# Altium footprint library MA732GQ-Z.PcbLib: 3 footprints
Each footprint in its own frame and in the unit in brackets; x right, y up, seen from the top. Pads: shape width x height; smd on the part's side, far side on the other; paste and mask are expansions set on the pad; w line width, h text height; cw(c..) or ccw(c..) is an arc to the next point about the centre after c.
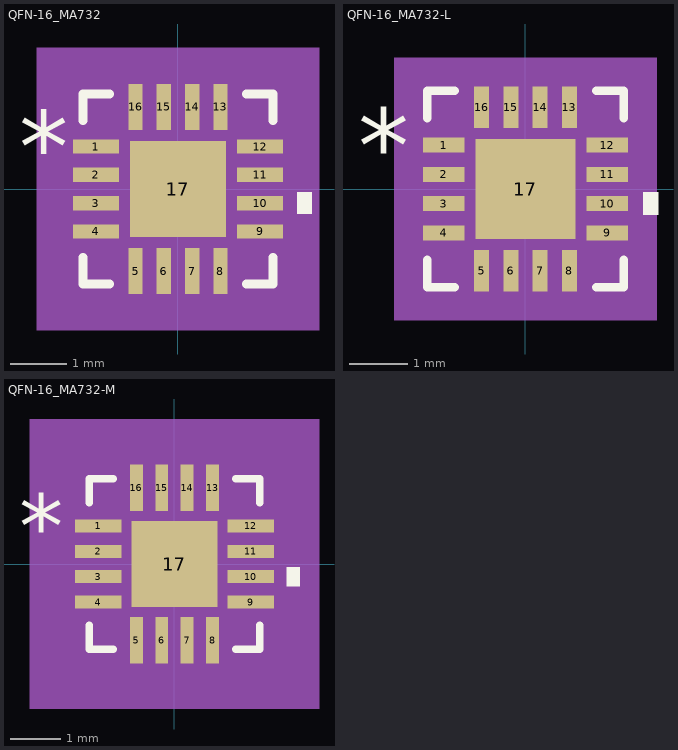
[diagram p0: the footprints below, top view; thin cyan lines are the x and y axes]

## QFN-16_MA732 [mil]
pads (17):
  rect 32x10 smd paste+0 mask+0: 1(-57,29.53) 2(-57,9.84) 3(-57,-9.84) 4(-57,-29.53) 9(57,-29.53) 10(57,-9.84) 11(57,9.84) 12(57,29.53)
  rect 10x32 smd paste+0 mask+0: 5(-29.53,-57) 6(-9.84,-57) 7(9.84,-57) 8(29.53,-57) 13(29.53,57) 14(9.84,57) 15(-9.84,57) 16(-29.53,57)
  rect 67x67 smd paste+0 mask+0: 17(0,0)
Top Overlay:
  region: 83,-2.34 93,-2.34 93,-17.34 83,-17.34
  lines w6: -66,-47.63 -66,-66 -47.63,-66 ; -66,47.63 -66,66 -47.63,66 ; 47.63,-66 66,-66 66,-47.63 ; 47.63,66 66,66 66,47.63
  text "*" at -110.5,4.53 h50
Mechanical 5:
  region: 98,-98 -98,-98 -98,98 98,98
Mechanical 13:
  lines w1: -61,11 -11,61 ; -61,-61 -61,61 61,61 61,-61 -61,-61 ; -61,-35.53 -61,-23.53 -61,-35.53 ; -61,-15.84 -61,-3.84 -61,-15.84 ; -61,3.84 -61,15.84 -61,3.84 ; -61,23.53 -61,35.53 -61,23.53 ; -35.53,-61 -23.53,-61 -35.53,-61 ; -35.53,61 -23.53,61 -35.53,61 ; -15.84,-61 -3.84,-61 -15.84,-61 ; -15.84,61 -3.84,61 -15.84,61 ; 3.84,-61 15.84,-61 3.84,-61 ; 3.84,61 15.84,61 3.84,61 ; 23.53,-61 35.53,-61 23.53,-61 ; 23.53,61 35.53,61 23.53,61 ; 61,-35.53 61,-23.53 61,-35.53 ; 61,-15.84 61,-3.84 61,-15.84 ; 61,3.84 61,15.84 61,3.84 ; 61,23.53 61,35.53 61,23.53
  text "*" at -28.5,4.53 h50
Mechanical 15:
  region: -44.53,-71 -71,-71 -71,-44.53 -83,-44.53 -83,44.53 -71,44.53 -71,71 -44.53,71 -44.53,83 44.53,83 44.53,71 71,71 71,44.53 83,44.53 83,-44.53 71,-44.53 71,-71 44.53,-71 44.53,-83 -44.53,-83
  lines w6: -83,-44.53 -83,44.53 -71,44.53 -71,71 -44.53,71 -44.53,83 44.53,83 44.53,71 71,71 71,44.53 83,44.53 83,-44.53 71,-44.53 71,-71 44.53,-71 44.53,-83 -44.53,-83 -44.53,-71 -71,-71 -71,-44.53 -83,-44.53
3D body "QFN-16_MA732.step": height 37.09, standoff 0, extent -60.98,-60.98 60.98,60.98

## QFN-16_MA732-L [mil]
pads (17):
  rect 28x10 smd paste+0 mask+0: 1(-55,29.53) 2(-55,9.84) 3(-55,-9.84) 4(-55,-29.53) 9(55,-29.53) 10(55,-9.84) 11(55,9.84) 12(55,29.53)
  rect 10x28 smd paste+0 mask+0: 5(-29.53,-55) 6(-9.84,-55) 7(9.84,-55) 8(29.53,-55) 13(29.53,55) 14(9.84,55) 15(-9.84,55) 16(-29.53,55)
  rect 67x67 smd paste+0 mask+0: 17(0,0)
Top Overlay:
  region: 79,-2.34 89,-2.34 89,-17.34 79,-17.34
  lines w6: -66,-47.63 -66,-66 -47.63,-66 ; -66,47.63 -66,66 -47.63,66 ; 47.63,-66 66,-66 66,-47.63 ; 47.63,66 66,66 66,47.63
  text "*" at -112.5,4.53 h50
Mechanical 5:
  region: 88,-88 -88,-88 -88,88 88,88
Mechanical 13:
  lines w1: -61,11 -11,61 ; -61,-61 -61,61 61,61 61,-61 -61,-61 ; -61,-35.53 -61,-23.53 -61,-35.53 ; -61,-15.84 -61,-3.84 -61,-15.84 ; -61,3.84 -61,15.84 -61,3.84 ; -61,23.53 -61,35.53 -61,23.53 ; -35.53,-61 -23.53,-61 -35.53,-61 ; -35.53,61 -23.53,61 -35.53,61 ; -15.84,-61 -3.84,-61 -15.84,-61 ; -15.84,61 -3.84,61 -15.84,61 ; 3.84,-61 15.84,-61 3.84,-61 ; 3.84,61 15.84,61 3.84,61 ; 23.53,-61 35.53,-61 23.53,-61 ; 23.53,61 35.53,61 23.53,61 ; 61,-35.53 61,-23.53 61,-35.53 ; 61,-15.84 61,-3.84 61,-15.84 ; 61,3.84 61,15.84 61,3.84 ; 61,23.53 61,35.53 61,23.53
  text "*" at -22.5,4.53 h50
Mechanical 15:
  region: -38.53,-65 -65,-65 -65,-38.53 -73,-38.53 -73,38.53 -65,38.53 -65,65 -38.53,65 -38.53,73 38.53,73 38.53,65 65,65 65,38.53 73,38.53 73,-38.53 65,-38.53 65,-65 38.53,-65 38.53,-73 -38.53,-73
  lines w6: -73,-38.53 -73,38.53 -65,38.53 -65,65 -38.53,65 -38.53,73 38.53,73 38.53,65 65,65 65,38.53 73,38.53 73,-38.53 65,-38.53 65,-65 38.53,-65 38.53,-73 -38.53,-73 -38.53,-65 -65,-65 -65,-38.53 -73,-38.53
3D body "QFN-16_MA732.step": height 37.09, standoff 0, extent -60.98,-60.98 60.98,60.98

## QFN-16_MA732-M [mil]
pads (17):
  rect 36x10 smd paste+0 mask+0: 1(-59,29.53) 2(-59,9.84) 3(-59,-9.84) 4(-59,-29.53) 9(59,-29.53) 10(59,-9.84) 11(59,9.84) 12(59,29.53)
  rect 10x36 smd paste+0 mask+0: 5(-29.53,-59) 6(-9.84,-59) 7(9.84,-59) 8(29.53,-59) 13(29.53,59) 14(9.84,59) 15(-9.84,59) 16(-29.53,59)
  rect 67x67 smd paste+0 mask+0: 17(0,0)
Top Overlay:
  region: 87,-2.34 97,-2.34 97,-17.34 87,-17.34
  lines w6: -66,-47.63 -66,-66 -47.63,-66 ; -66,47.63 -66,66 -47.63,66 ; 47.63,-66 66,-66 66,-47.63 ; 47.63,66 66,66 66,47.63
  text "*" at -120.5,4.53 h50
Mechanical 5:
  region: 112,-112 -112,-112 -112,112 112,112
Mechanical 13:
  lines w1: -61,11 -11,61 ; -61,-61 -61,61 61,61 61,-61 -61,-61 ; -61,-35.53 -61,-23.53 -61,-35.53 ; -61,-15.84 -61,-3.84 -61,-15.84 ; -61,3.84 -61,15.84 -61,3.84 ; -61,23.53 -61,35.53 -61,23.53 ; -35.53,-61 -23.53,-61 -35.53,-61 ; -35.53,61 -23.53,61 -35.53,61 ; -15.84,-61 -3.84,-61 -15.84,-61 ; -15.84,61 -3.84,61 -15.84,61 ; 3.84,-61 15.84,-61 3.84,-61 ; 3.84,61 15.84,61 3.84,61 ; 23.53,-61 35.53,-61 23.53,-61 ; 23.53,61 35.53,61 23.53,61 ; 61,-35.53 61,-23.53 61,-35.53 ; 61,-15.84 61,-3.84 61,-15.84 ; 61,3.84 61,15.84 61,3.84 ; 61,23.53 61,35.53 61,23.53
  text "*" at -22.5,4.53 h50
Mechanical 15:
  region: -54.53,-81 -81,-81 -81,-54.53 -97,-54.53 -97,54.53 -81,54.53 -81,81 -54.53,81 -54.53,97 54.53,97 54.53,81 81,81 81,54.53 97,54.53 97,-54.53 81,-54.53 81,-81 54.53,-81 54.53,-97 -54.53,-97
  lines w6: -97,-54.53 -97,54.53 -81,54.53 -81,81 -54.53,81 -54.53,97 54.53,97 54.53,81 81,81 81,54.53 97,54.53 97,-54.53 81,-54.53 81,-81 54.53,-81 54.53,-97 -54.53,-97 -54.53,-81 -81,-81 -81,-54.53 -97,-54.53
3D body "QFN-16_MA732.step": height 37.09, standoff 0, extent -60.98,-60.98 60.98,60.98